# Altium schematic symbol library IST8308.SchLib: 1 symbol
Pins are listed as number, name and electrical type; pins without a type are passive.

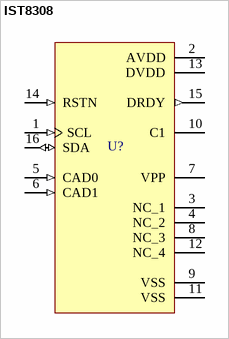
[diagram p0: symbol IST8308]

## IST8308
designator U?, comment OK  (value not drawn)
3-axis digital magnetometer with 16-pin LGA package
pins: 1 SCL (in), 2 AVDD (power), 3 NC_1, 4 NC_2, 5 CAD0 (in), 6 CAD1 (in), 7 VPP, 8 NC_3, 9 VSS (power), 10 C1, 11 VSS (power), 12 NC_4, 13 DVDD (power), 14 RSTN (in), 15 DRDY (out), 16 SDA (io)